# Altium footprint library QFN50P450X350X100-21N.PcbLib: 1 footprints
Each footprint in its own frame and in the unit in brackets; x right, y up, seen from the top. Pads: shape width x height; smd on the part's side, far side on the other; paste and mask are expansions set on the pad; w line width, h text height; cw(c..) or ccw(c..) is an arc to the next point about the centre after c.
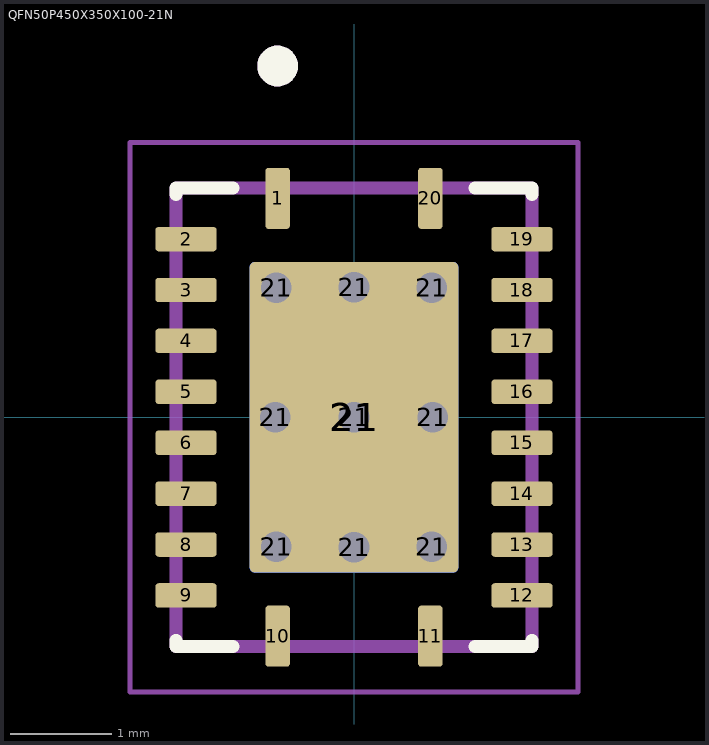
[diagram p0: the footprint, top view; thin cyan lines are the x and y axes]

## QFN50P450X350X100-21N [mm]
pads (31):
  rrect25% 0.24x0.6 smd mask+0: 1(-0.75,2.15) 10(-0.75,-2.15) 11(0.75,-2.15) 20(0.75,2.15)
  rrect25% 0.6x0.24 smd mask+0: 2(-1.65,1.75) 3(-1.65,1.25) 4(-1.65,0.75) 5(-1.65,0.25) 6(-1.65,-0.25) 7(-1.65,-0.75) 8(-1.65,-1.25) 9(-1.65,-1.75) 12(1.65,-1.75) 13(1.65,-1.25) 14(1.65,-0.75) 15(1.65,-0.25) 16(1.65,0.25) 17(1.65,0.75) 18(1.65,1.25) 19(1.65,1.75)
  round 0.4 hole 0.3 mask+0: 21(-0.775,0) 21(-0.762,-1.27) 21(-0.762,1.27) 21(0,-1.275) 21(0,0) 21(0,1.275) 21(0.762,-1.27) 21(0.762,1.27) 21(0.775,0)
  rrect5% 2.05x3.05 smd paste-3 mask+0: 21(0,0)
  rrect5% 2.05x3.05 smd far side paste-3 mask+0: 21(0,0)
Top Overlay:
  circle w0.2: c-0.75,3.45 r0.1
  lines w0.127: -1.75,-2.19 -1.75,-2.25 -1.19,-2.25 ; -1.75,2.19 -1.75,2.25 -1.19,2.25 ; 1.19,-2.25 1.75,-2.25 1.75,-2.19 ; 1.19,2.25 1.75,2.25 1.75,2.19
Top Paste:
  drawing of 4 lines, arcs and shapes, not listed
Top Solder:
  drawing of 21 lines, arcs and shapes, not listed
Mechanical 13:
  circle w0.2: c-0.75,3.45 r0.1
  lines w0.127: -1.75,-2.25 -1.75,2.25 1.75,2.25 1.75,-2.25 -1.75,-2.25
Mechanical 15:
  lines w0.05: -2.2,-2.7 2.2,-2.7 2.2,2.7 -2.2,2.7 -2.2,-2.7
3D body "step_temp.STEP": height 1, standoff 0, extent -1.75,-2.25 1.75,2.25
3D body "LM5146QRGYRQ1.STEP": height 1, standoff 0, extent -1.75,-2.25 1.75,2.25